# Altium footprint library MPS.PcbLib: 6 footprints
Each footprint in its own frame and in the unit in brackets; x right, y up, seen from the top. Pads: shape width x height; smd on the part's side, far side on the other; paste and mask are expansions set on the pad; w line width, h text height; cw(c..) or ccw(c..) is an arc to the next point about the centre after c.
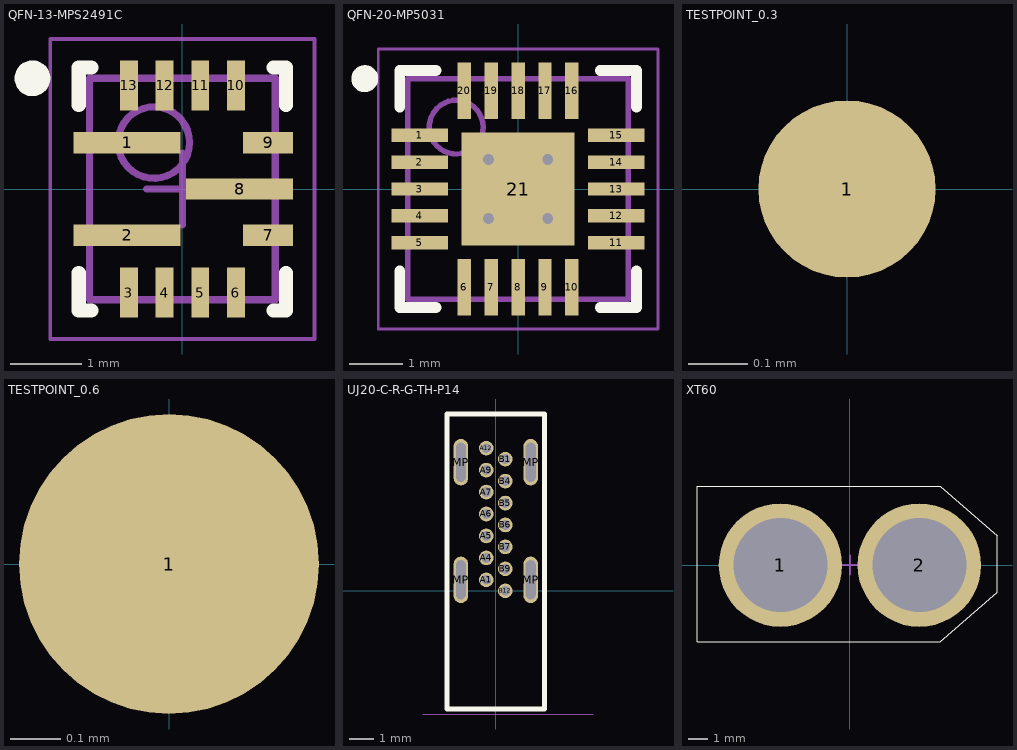
[diagram p0: the footprints below, top view; thin cyan lines are the x and y axes]

## QFN-13-MPS2491C [mm] "QFN, 14-Leads, Body 2,50x2,55mm, Pitch 0,50mm/0,65mm, IPC Medium Density"
height 1
pads (13):
  rect 1.5x0.3 smd: 1(-0.775,0.65) 2(-0.775,-0.65) 8(0.8,0)
  rect 0.25x0.7 smd: 3(-0.75,-1.45) 4(-0.25,-1.45) 5(0.25,-1.45) 6(0.75,-1.45) 10(0.75,1.45) 11(0.25,1.45) 12(-0.25,1.45) 13(-0.75,1.45)
  rect 0.7x0.3 smd: 7(1.2,-0.65) 9(1.2,0.65)
Top Overlay:
  circle w0.25: c-2.1,1.55 r0.125
  lines w0.2: -1.45,-1.175 -1.45,-1.7 -1.275,-1.7 ; -1.45,1.175 -1.45,1.7 -1.275,1.7 ; 1.275,-1.7 1.45,-1.7 1.45,-1.175 ; 1.275,1.7 1.45,1.7 1.45,1.175
Mechanical 13:
  circle w0.1: c-0.4,0.65 r0.5
  lines w0.1: -1.3,-1.55 1.3,-1.55 1.3,1.55 -1.3,1.55 -1.3,-1.55
Mechanical 15:
  lines w0.05: -1.85,-2.1 1.85,-2.1 1.85,2.1 -1.85,2.1 -1.85,-2.1
  lines w0.1: -0.5,0 0.5,0 ; 0,-0.5 0,0.5
3D body "QFN50P250X255X100-14N.step": height 1, standoff 0, extent -1.301,-1.551 1.301,1.551

## QFN-20-MP5031 [mm] "QFN, 20-Leads, Body 4,00x4,00mm, Pitch 0,50mm, Thermal Pad 2,10x2,10mm, IPC Medium Density"
height 1
pads (21):
  rect 1.05x0.25 smd: 1(-1.825,1) 2(-1.825,0.5) 3(-1.825,0) 4(-1.825,-0.5) 5(-1.825,-1) 11(1.825,-1) 12(1.825,-0.5) 13(1.825,0) 14(1.825,0.5) 15(1.825,1)
  rect 0.25x1.05 smd: 6(-1,-1.825) 7(-0.5,-1.825) 8(0,-1.825) 9(0.5,-1.825) 10(1,-1.825) 16(1,1.825) 17(0.5,1.825) 18(0,1.825) 19(-0.5,1.825) 20(-1,1.825)
  rect 2.1x2.1 smd: 21(0,0)
via 0.55,-0.55 diameter 0.5 hole 0.2
via -0.55,-0.55 diameter 0.5 hole 0.2
via 0.55,0.55 diameter 0.5 hole 0.2
via -0.55,0.55 diameter 0.5 hole 0.2
Top Overlay:
  circle w0.25: c-2.85,2.05 r0.125
  lines w0.2: -2.2,-1.525 -2.2,-2.2 -1.525,-2.2 ; -2.2,1.525 -2.2,2.2 -1.525,2.2 ; 1.525,-2.2 2.2,-2.2 2.2,-1.525 ; 1.525,2.2 2.2,2.2 2.2,1.525
Mechanical 13:
  circle w0.1: c-1.15,1.15 r0.5
  lines w0.1: -2.05,-2.05 2.05,-2.05 2.05,2.05 -2.05,2.05 -2.05,-2.05
Mechanical 15:
  lines w0.05: -2.6,-2.6 2.6,-2.6 2.6,2.6 -2.6,2.6 -2.6,-2.6
  lines w0.1: -0.5,0 0.5,0 ; 0,-0.5 0,0.5
3D body "QFN-20-MP5031.step": height 1, standoff 0, extent -2.051,-2.051 2.051,2.051

## TESTPOINT_0.3 [mm]
pads (1):
  round 0.3 smd paste-2539.97: 1(0,0)

## TESTPOINT_0.6 [mm]
pads (1):
  round 0.6 smd paste-2539.97: 1(0,0)

## UJ20-C-R-G-TH-P14 [mm]
pads (18):
  round 0.6 hole 0.4: A1(-0.39,0.45) A4(-0.39,1.35) A5(-0.39,2.25) A6(-0.39,3.15) A7(-0.39,4.05) A9(-0.39,4.95) A12(-0.39,5.85) B1(0.39,5.4) B4(0.39,4.5) B5(0.39,3.6) B6(0.39,2.7) B7(0.39,1.8) B9(0.39,0.9) B12(0.39,0)
  oval 0.6x1.9 hole 0.4 slot 1.6 at 90 deg: MP(-1.43,0.45) MP(-1.43,5.275) MP(1.43,0.45) MP(1.43,5.275)
Top Overlay:
  lines w0.2: -2,-4.85 2,-4.85 2,7.25 -2,7.25 -2,-4.85
Mechanical 1:
  lines w0.05: -3,-5.05 4,-5.05
  text "PCB edge" at 2.284,-4.867 h0.2
3D body "Same_Sky_UJ20-C-R-G-TH-P14.step": height 9.07, standoff -2.47, extent -1.88,-7.608 1.88,7.042

## XT60 [mm] "Battery Connector"
pads (2):
  round 6.5 hole 4.95: 1(-3.658,0) 2(3.658,0)
Top Overlay:
  lines w0.05: -8.052,-4.039 -8.052,4.161 4.748,4.161 7.748,1.561 7.748,-1.439 4.748,-4.039 -8.052,-4.039
Mechanical 15:
  lines w0.1: -0.5,0 0.5,0 ; 0,-0.5 0,0.5
3D body "XT60 Stecker.stp": height 16.4, standoff -5, extent -7.978,-3.911 7.622,4.089